# EAGLE library part CH224K (library misc)
USB PD and other multi-fast charging protocol power receiving chip
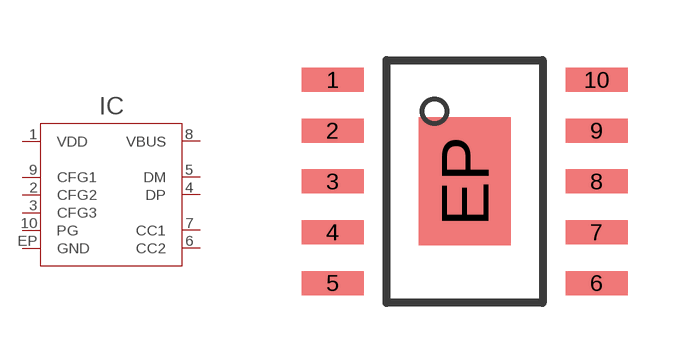
[diagram p38: symbol with the pads of SOIC10-EP; footprint SOIC10-EP]

Designator prefix IC

## CH224K (MANF: WCH-IC; MANF#: CH224K)  [SOIC10-EP]
1  VDD
2  CFG2
3  CFG3
4  DP
5  DM
6  CC2
7  CC1
8  VBUS
9  CFG1
10  PG
EP  GND

## Footprint SOIC10-EP (pad centres in mm)
smd 1.55 x 0.6: 1 -3.3,2.54; 2 -3.3,1.27; 3 -3.3,0; 4 -3.3,-1.27; 5 -3.3,-2.54; 6 3.3,-2.54; 7 3.3,-1.27; 8 3.3,0; 9 3.3,1.27; 10 3.3,2.54
smd 2.3 x 3.2: EP 0,0